# Altium schematic symbol library RCLAMP0504FAPTCT.SchLib: 1 symbol
Pins are listed as number, name and electrical type; pins without a type are passive.

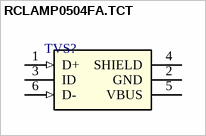
[diagram p0: symbol RCLAMP0504FA.TCT]

## RCLAMP0504FA.TCT
designator TVS?  (value not drawn)
No Description Available; Mfr_Name: Semtech; Copyright: Copyright (C) 2023 Ultra Librarian. All rights reserved.; Manufacturer_Part_Number: RCLAMP0504FA.TCT; RefDes: RefDes; Type: DEV
footprint RCLAMP0504FA_SEM
pins: 1 D+ (in), 2 GND (power), 3 ID, 4 SHIELD (power), 5 VBUS (power), 6 D- (in)